# EAGLE library part 68685-306* (library volks73-FCI)
6-Pin Female Header DUBOX™, MezzSelect™, Basics+ Documentation Drawing <http://portal.fciconnect.com/Comergent//fci/drawing/68685.pdf>
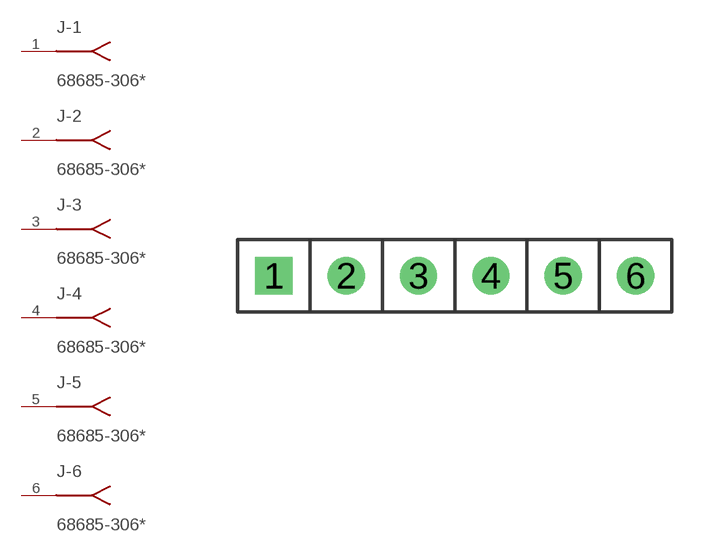
[diagram p0: symbol with the pads of 306; footprint 306]

Designator prefix J; gates -1=FEMALE_CONNECTOR -2=FEMALE_CONNECTOR -3=FEMALE_CONNECTOR -4=FEMALE_CONNECTOR -5=FEMALE_CONNECTOR -6=FEMALE_CONNECTOR

## 68685-306LF (CATEGORY: Connectors, Interconnects; COLOR: Black; CONNECTOR_TYPE: Receptacle; CONTACT_FINISH: Gold or Gold GXT; CONTACT_FINISH_THICKNESS: 30uin (0.76um); CONTACT_TYPE: Female Socket; DESCRIPTION: CONN RCPT 6POS .100" SNG ROW; DOCUMENTATION_LINK: <a href="http://portal.fciconnect.com/Comergent//fci/drawing/68685.pdf">Datasheet</a>; DOCUMENTATION_URL: http://portal.fciconnect.com/Comergent//fci/drawing/68685.pdf; FAMILY: Rectangular Connectors - Headers, Receptacles, Female Sockets; FASTENING_TYPE: -; FEATURES: -; MANUFACTURER: FCI; MOUNTING_TYPE: Through Hole; NUMBER_OF_POSITIONS: 6; NUMBER_OF_POSITIONS_LOADED: All; NUMBER_OF_ROWS: 1; PART_NUMBER: 68685-306LF; PITCH: 0.100" (2.54mm); ROW_SPACING: -; SERIES: DUBOX, MezzSelect, Basics+; STANDARD_PACKAGE: 38; SUPPLIER_ITEM_LINK: <a href="http://www.digikey.com/product-detail/en/68685-306LF/609-3588-ND/1525350">Details</a>; SUPPLIER_ITEM_NUMBER: 609-3588-ND; SUPPLIER_ITEM_URL: http://www.digikey.com/product-detail/en/68685-306LF/609-3588-ND/1525350; SUPPLIER_LINK: <a href="http://www.digikey.com">Home Page</a>; SUPPLIER_NAME: Digi-Key; SUPPLIER_URL: http://www.digikey.com; TERMINATION: Solder)  [306]
1  -1:P$1
2  -2:P$1
3  -3:P$1
4  -4:P$1
5  -5:P$1
6  -6:P$1

## Footprint 306 (pad centres in mm)
6-Pin Female Header, Through Hole, 0.100" (2.54mm) Lead Spacing DUBOX™, MezzSelect™, Basics+ Series, 306 Size Code
drill 0.8 square: 1 -6.35,0
drill 0.8: 2 -3.81,0; 3 -1.27,0; 4 1.27,0; 5 3.81,0; 6 6.35,0